# EAGLE library part 310010045_LPC11U24FBD64 (library Seeed-OPL-2017-01-IC-Akita)
NXP;LPC11U24FBD64/401, SMD IC MCU;LQFP-64, SKU: 310010045
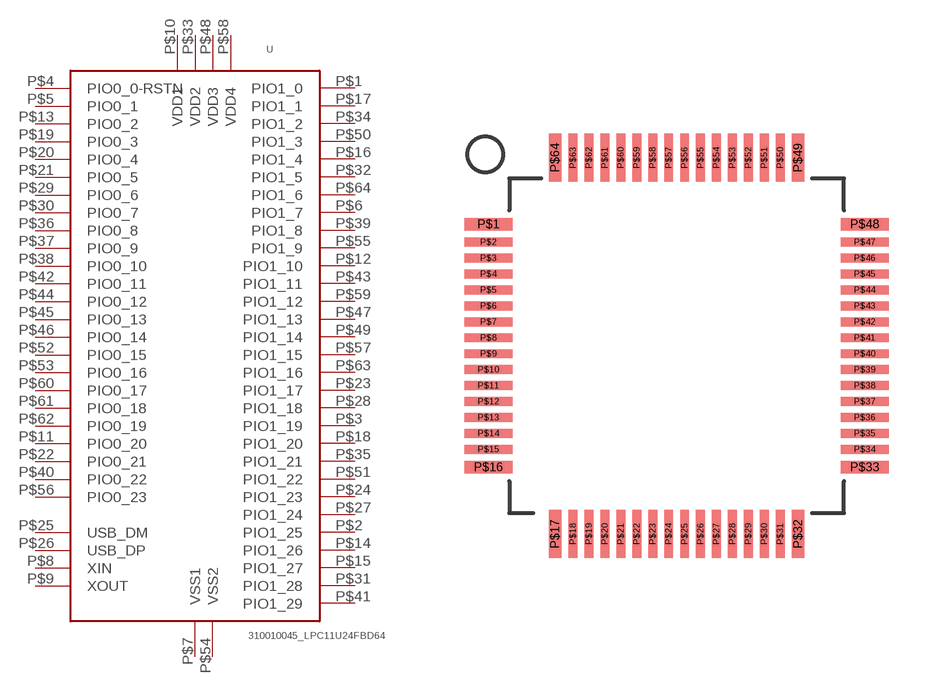
[diagram p0: symbol with the pads of LQFP64; footprint LQFP64]

Designator prefix U

## 310010045_LPC11U24FBD64  [LQFP64]
P$1  PIO1_0
P$2  PIO1_25
P$3  PIO1_19
P$4  PIO0_0-RSTN
P$5  PIO0_1
P$6  PIO1_7
P$7  VSS1
P$8  XIN
P$9  XOUT
P$10  VDD1
P$11  PIO0_20
P$12  PIO1_10
P$13  PIO0_2
P$14  PIO1_26
P$15  PIO1_27
P$16  PIO1_4
P$17  PIO1_1
P$18  PIO1_20
P$19  PIO0_3
P$20  PIO0_4
P$21  PIO0_5
P$22  PIO0_21
P$23  PIO1_17
P$24  PIO1_23
P$25  USB_DM
P$26  USB_DP
P$27  PIO1_24
P$28  PIO1_18
P$29  PIO0_6
P$30  PIO0_7
P$31  PIO1_28
P$32  PIO1_5
P$33  VDD2
P$34  PIO1_2
P$35  PIO1_21
P$36  PIO0_8
P$37  PIO0_9
P$38  PIO0_10
P$39  PIO1_8
P$40  PIO0_22
P$41  PIO1_29
P$42  PIO0_11
P$43  PIO1_11
P$44  PIO0_12
P$45  PIO0_13
P$46  PIO0_14
P$47  PIO1_13
P$48  VDD3
P$49  PIO1_14
P$50  PIO1_3
P$51  PIO1_22
P$52  PIO0_15
P$53  PIO0_16
P$54  VSS2
P$55  PIO1_9
P$56  PIO0_23
P$57  PIO1_15
P$58  VDD4
P$59  PIO1_12
P$60  PIO0_17
P$61  PIO0_18
P$62  PIO0_19
P$63  PIO1_16
P$64  PIO1_6

## Footprint LQFP64 (pad centres in mm)
LQFP64 (0.5mm pitch)
smd 1.5 x 0.4: P$1 -5.9,3.81; P$16 -5.9,-3.81; P$33 5.9,-3.81; P$48 5.9,3.81
smd 1.5 x 0.28: P$2 -5.9,3.25; P$3 -5.9,2.75; P$4 -5.9,2.25; P$5 -5.9,1.75; P$6 -5.9,1.25; P$7 -5.9,0.75; P$8 -5.9,0.25; P$9 -5.9,-0.25; P$10 -5.9,-0.75; P$11 -5.9,-1.25; P$12 -5.9,-1.75; P$13 -5.9,-2.25; P$14 -5.9,-2.75; P$15 -5.9,-3.25; P$34 5.9,-3.25; P$35 5.9,-2.75; P$36 5.9,-2.25; P$37 5.9,-1.75; P$38 5.9,-1.25; P$39 5.9,-0.75; P$40 5.9,-0.25; P$41 5.9,0.25; P$42 5.9,0.75; P$43 5.9,1.25; P$44 5.9,1.75; P$45 5.9,2.25; P$46 5.9,2.75; P$47 5.9,3.25
smd 0.4 x 1.5: P$17 -3.81,-5.9; P$32 3.81,-5.9; P$49 3.81,5.9; P$64 -3.81,5.9
smd 0.28 x 1.5: P$18 -3.25,-5.9; P$19 -2.75,-5.9; P$20 -2.25,-5.9; P$21 -1.75,-5.9; P$22 -1.25,-5.9; P$23 -0.75,-5.9; P$24 -0.25,-5.9; P$25 0.25,-5.9; P$26 0.75,-5.9; P$27 1.25,-5.9; P$28 1.75,-5.9; P$29 2.25,-5.9; P$30 2.75,-5.9; P$31 3.25,-5.9; P$50 3.25,5.9; P$51 2.75,5.9; P$52 2.25,5.9; P$53 1.75,5.9; P$54 1.25,5.9; P$55 0.75,5.9; P$56 0.25,5.9; P$57 -0.25,5.9; P$58 -0.75,5.9; P$59 -1.25,5.9; P$60 -1.75,5.9; P$61 -2.25,5.9; P$62 -2.75,5.9; P$63 -3.25,5.9